# Altium schematic symbol library zynq7010_clg225.SchLib: 1 symbol
Pins are listed as number, name and electrical type; pins without a type are passive.

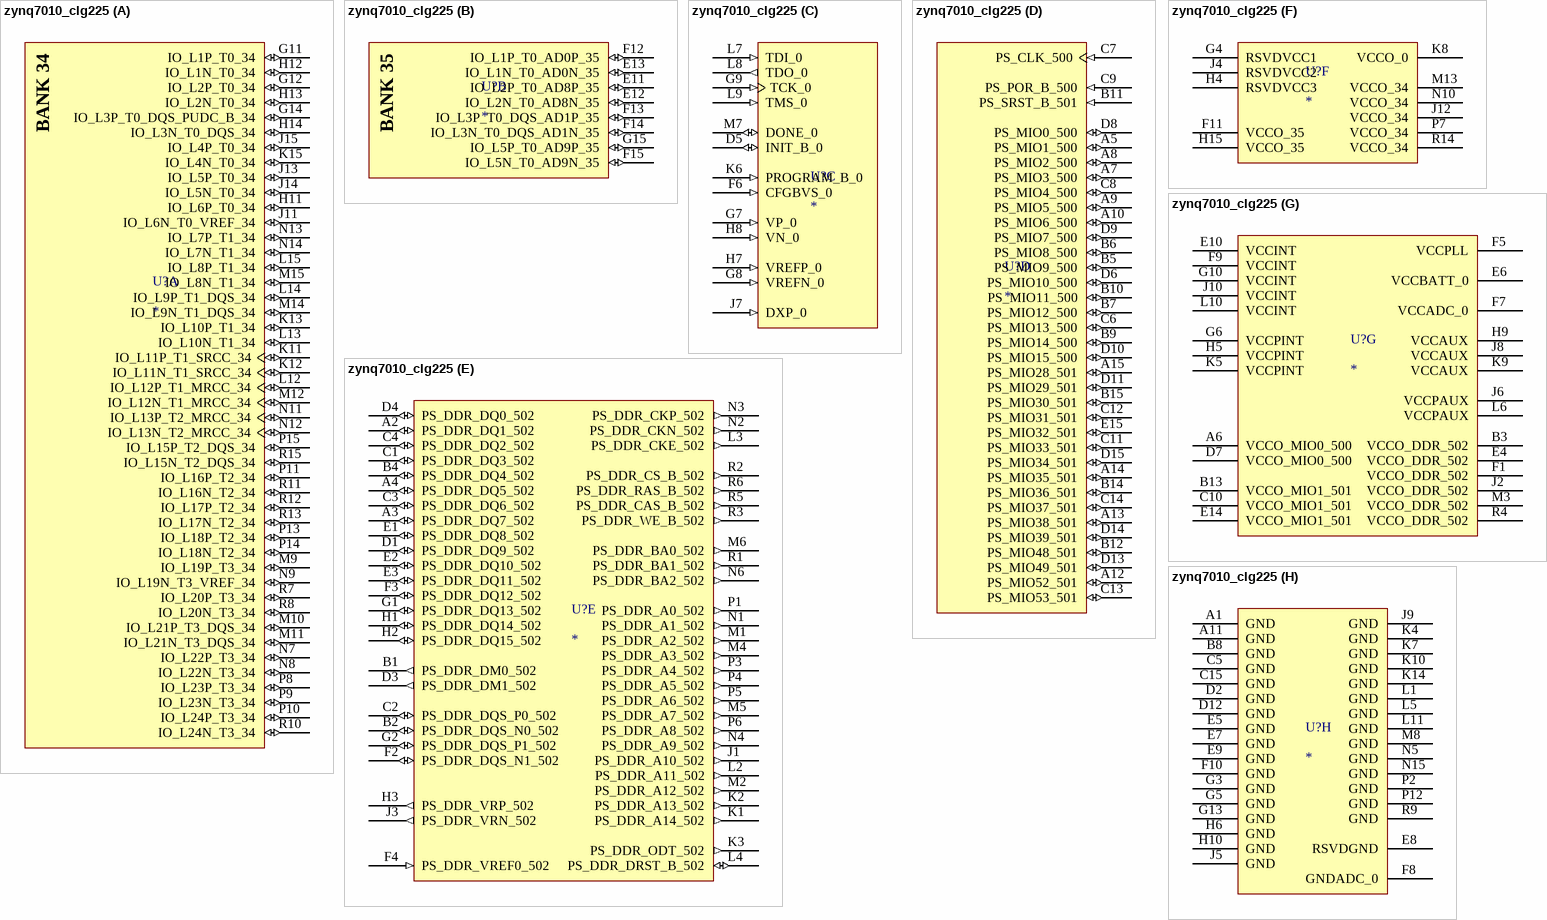
[diagram p0: symbol zynq7010_clg225]

## zynq7010_clg225
designator U?
footprint CLG225 (BGA, 225-Balls, Body 13x13mm, Pitch 0.8mm)
part A pins: G11 IO_L1P_T0_34 (io), G12 IO_L2P_T0_34 (io), G14 IO_L3P_T0_DQS_PUDC_B_34 (io), H11 IO_L6P_T0_34 (io), H12 IO_L1N_T0_34 (io), H13 IO_L2N_T0_34 (io), H14 IO_L3N_T0_DQS_34 (io), J11 IO_L6N_T0_VREF_34 (io), J13 IO_L5P_T0_34 (io), J14 IO_L5N_T0_34 (io), J15 IO_L4P_T0_34 (io), K11 IO_L11P_T1_SRCC_34 (io), K12 IO_L11N_T1_SRCC_34 (io), K13 IO_L10P_T1_34 (io), K15 IO_L4N_T0_34 (io), L12 IO_L12P_T1_MRCC_34 (io), L13 IO_L10N_T1_34 (io), L14 IO_L9P_T1_DQS_34 (io), L15 IO_L8P_T1_34 (io), M9 IO_L19P_T3_34 (io), M10 IO_L21P_T3_DQS_34 (io), M11 IO_L21N_T3_DQS_34 (io), M12 IO_L12N_T1_MRCC_34 (io), M14 IO_L9N_T1_DQS_34 (io), M15 IO_L8N_T1_34 (io), N7 IO_L22P_T3_34 (io), N8 IO_L22N_T3_34 (io), N9 IO_L19N_T3_VREF_34 (io), N11 IO_L13P_T2_MRCC_34 (io), N12 IO_L13N_T2_MRCC_34 (io), N13 IO_L7P_T1_34 (io), N14 IO_L7N_T1_34 (io), P8 IO_L23P_T3_34 (io), P9 IO_L23N_T3_34 (io), P10 IO_L24P_T3_34 (io), P11 IO_L16P_T2_34 (io), P13 IO_L18P_T2_34 (io), P14 IO_L18N_T2_34 (io), P15 IO_L15P_T2_DQS_34 (io), R7 IO_L20P_T3_34 (io), R8 IO_L20N_T3_34 (io), R10 IO_L24N_T3_34 (io), R11 IO_L16N_T2_34 (io), R12 IO_L17P_T2_34 (io), R13 IO_L17N_T2_34 (io), R15 IO_L15N_T2_DQS_34 (io)
part B pins: E11 IO_L2P_T0_AD8P_35 (io), E12 IO_L2N_T0_AD8N_35 (io), E13 IO_L1N_T0_AD0N_35 (io), F12 IO_L1P_T0_AD0P_35 (io), F13 IO_L3P_T0_DQS_AD1P_35 (io), F14 IO_L3N_T0_DQS_AD1N_35 (io), F15 IO_L5N_T0_AD9N_35 (io), G15 IO_L5P_T0_AD9P_35 (io)
part C pins: D5 INIT_B_0 (io), F6 CFGBVS_0 (in), G7 VP_0 (in), G8 VREFN_0 (in), G9 TCK_0 (in), H7 VREFP_0 (in), H8 VN_0 (in), J7 DXP_0 (in), K6 PROGRAM_B_0 (in), L7 TDI_0 (in), L8 TDO_0 (out), L9 TMS_0 (in), M7 DONE_0 (io)
part D pins: A5 PS_MIO1_500 (io), A7 PS_MIO3_500 (io), A8 PS_MIO2_500 (io), A9 PS_MIO5_500 (io), A10 PS_MIO6_500 (io), A12 PS_MIO52_501 (io), A13 PS_MIO38_501 (io), A14 PS_MIO35_501 (io), A15 PS_MIO28_501 (io), B5 PS_MIO9_500 (io), B6 PS_MIO8_500 (io), B7 PS_MIO12_500 (io), B9 PS_MIO14_500 (io), B10 PS_MIO11_500 (io), B11 PS_SRST_B_501 (in), B12 PS_MIO48_501 (io), B14 PS_MIO36_501 (io), B15 PS_MIO30_501 (io), C6 PS_MIO13_500 (io), C7 PS_CLK_500 (in), C8 PS_MIO4_500 (io), C9 PS_POR_B_500 (in), C11 PS_MIO33_501 (io), C12 PS_MIO31_501 (io), C13 PS_MIO53_501 (io), C14 PS_MIO37_501 (io), D6 PS_MIO10_500 (io), D8 PS_MIO0_500 (io), D9 PS_MIO7_500 (io), D10 PS_MIO15_500 (io), D11 PS_MIO29_501 (io), D13 PS_MIO49_501 (io), D14 PS_MIO39_501 (io), D15 PS_MIO34_501 (io), E15 PS_MIO32_501 (io)
part E pins: A2 PS_DDR_DQ1_502 (io), A3 PS_DDR_DQ7_502 (io), A4 PS_DDR_DQ5_502 (io), B1 PS_DDR_DM0_502 (out), B2 PS_DDR_DQS_N0_502 (io), B4 PS_DDR_DQ4_502 (io), C1 PS_DDR_DQ3_502 (io), C2 PS_DDR_DQS_P0_502 (io), C3 PS_DDR_DQ6_502 (io), C4 PS_DDR_DQ2_502 (io), D1 PS_DDR_DQ9_502 (io), D3 PS_DDR_DM1_502 (out), D4 PS_DDR_DQ0_502 (io), E1 PS_DDR_DQ8_502 (io), E2 PS_DDR_DQ10_502 (io), E3 PS_DDR_DQ11_502 (io), F2 PS_DDR_DQS_N1_502 (io), F3 PS_DDR_DQ12_502 (io), F4 PS_DDR_VREF0_502 (in), G1 PS_DDR_DQ13_502 (io), G2 PS_DDR_DQS_P1_502 (io), H1 PS_DDR_DQ14_502 (io), H2 PS_DDR_DQ15_502 (io), H3 PS_DDR_VRP_502 (out), J1 PS_DDR_A10_502 (out), J3 PS_DDR_VRN_502 (out), K1 PS_DDR_A14_502 (out), K2 PS_DDR_A13_502 (out), K3 PS_DDR_ODT_502 (out), L2 PS_DDR_A11_502 (out), L3 PS_DDR_CKE_502 (out), L4 PS_DDR_DRST_B_502 (io), M1 PS_DDR_A2_502 (out), M2 PS_DDR_A12_502 (out), M4 PS_DDR_A3_502 (out), M5 PS_DDR_A7_502 (out), M6 PS_DDR_BA0_502 (out), N1 PS_DDR_A1_502 (out), N2 PS_DDR_CKN_502 (out), N3 PS_DDR_CKP_502 (out), N4 PS_DDR_A9_502 (out), N6 PS_DDR_BA2_502 (out), P1 PS_DDR_A0_502 (out), P3 PS_DDR_A4_502 (out), P4 PS_DDR_A5_502 (out), P5 PS_DDR_A6_502 (out), P6 PS_DDR_A8_502 (out), R1 PS_DDR_BA1_502 (out), R2 PS_DDR_CS_B_502 (out), R3 PS_DDR_WE_B_502 (out), R5 PS_DDR_CAS_B_502 (out), R6 PS_DDR_RAS_B_502 (out)
part F pins: F11 VCCO_35 (power), G4 RSVDVCC1 (power), H4 RSVDVCC3 (power), H15 VCCO_35 (power), J4 RSVDVCC2 (power), J12 VCCO_34 (power), K8 VCCO_0 (power), M13 VCCO_34 (power), N10 VCCO_34 (power), P7 VCCO_34 (power), R14 VCCO_34 (power)
part G pins: A6 VCCO_MIO0_500 (power), B3 VCCO_DDR_502 (power), B13 VCCO_MIO1_501 (power), C10 VCCO_MIO1_501 (power), D7 VCCO_MIO0_500 (power), E4 VCCO_DDR_502 (power), E6 VCCBATT_0 (power), E10 VCCINT (power), E14 VCCO_MIO1_501 (power), F1 VCCO_DDR_502 (power), F5 VCCPLL (power), F7 VCCADC_0 (power), F9 VCCINT (power), G6 VCCPINT (power), G10 VCCINT (power), H5 VCCPINT (power), H9 VCCAUX (power), J2 VCCO_DDR_502 (power), J6 VCCPAUX (power), J8 VCCAUX (power), J10 VCCINT (power), K5 VCCPINT (power), K9 VCCAUX (power), L6 VCCPAUX (power), L10 VCCINT (power), M3 VCCO_DDR_502 (power), R4 VCCO_DDR_502 (power)
part H pins: A1 GND (power), A11 GND (power), B8 GND (power), C5 GND (power), C15 GND (power), D2 GND (power), D12 GND (power), E5 GND (power), E7 GND (power), E8 RSVDGND (power), E9 GND (power), F8 GNDADC_0 (power), F10 GND (power), G3 GND (power), G5 GND (power), G13 GND (power), H6 GND (power), H10 GND (power), J5 GND (power), J9 GND (power), K4 GND (power), K7 GND (power), K10 GND (power), K14 GND (power), L1 GND (power), L5 GND (power), L11 GND (power), M8 GND (power), N5 GND (power), N15 GND (power), P2 GND (power), P12 GND (power), R9 GND (power)
part A text: BANK 34
part B text: BANK 35